# Altium schematic symbol library S系三极管.SCHLIB: 2 symbols
Pins are listed as number, name and electrical type; pins without a type are passive.

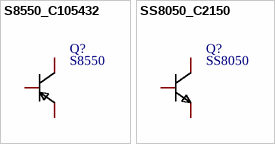
[diagram p0: symbols S8550_C105432 to SS8050_C2150]

## S8550_C105432
designator Q?, comment S8550
Manufacturer: CJ(���ճ���/����); Symbol: S8550_C105432; Add into BOM: yes; Transistor Type: PNP; Collector Current (Ic): 500mA; Collector-Emitter Breakdown Voltage (Vceo): 25V; Power Dissipation (Pd): 300mW; DC Current Gain (hFE@Ic,Vce): 120@50mA,1V; Transition Frequency (fT): 150MHz; Collector Cut-Off Current (Icbo): 100nA; Collector-Emitter Saturation Voltage (VCE(sat)@Ic,Ib): 600mV@500mA,50mA; Device: S8550_C105432; Supplier: LCSC; Manufacturer Part: S8550; Supplier Part: C105432; JLCPCB Part Class: ������; LCSC Part Name: PNP ����:500mA ��ѹ:25V L��120-200; Supplier Footprint: SOT-23; Datasheet: https://atta.szlcsc.com/upload/public/pdf/source/20171228/C164891_15144412930301213894.pdf; Convert to PCB: yes; Operating Temperature: -; Name: S8550
footprint SOT-23-3_L2.9-W1.3-P1.90-LS2.4-BR
pins: 1, 2, 3

## SS8050_C2150
designator Q?, comment SS8050
Manufacturer: CJ(���ճ���/����); Symbol: SS8050_C2150; Add into BOM: yes; Transistor Type: NPN; Collector Current (Ic): 1.5A; Collector-Emitter Breakdown Voltage (Vceo): 25V; Power Dissipation (Pd): 300mW; DC Current Gain (hFE@Ic,Vce): 200@100mA,1V; Transition Frequency (fT): 100MHz; Collector Cut-Off Current (Icbo): 100nA; Collector-Emitter Saturation Voltage (VCE(sat)@Ic,Ib): 500mV@800mA,80mA; Device: SS8050_C2150; Supplier: LCSC; Manufacturer Part: SS8050; Supplier Part: C2150; JLCPCB Part Class: ������; LCSC Part Name: NPN ����:1.5A ��ѹ:25V hfe=200~350; Supplier Footprint: SOT-23; Datasheet: https://atta.szlcsc.com/upload/public/pdf/source/20230322/AEE86F4B043774EFF80CAEA14A37D9E9.pdf; Convert to PCB: yes; Operating Temperature: -; Name: SS8050
footprint SOT-23-3_L2.9-W1.3-P1.90-LS2.4-BR
pins: 1 B, 2 E, 3 C